# EAGLE library part USB4105 (library con-gct-usb)
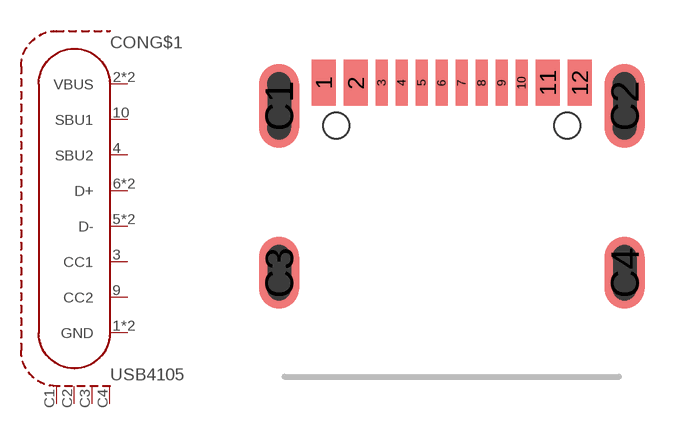
[diagram p0: symbol with the pads of USB4105; footprint USB4105]

Designator prefix CON; gates G$1=USB-C G$2=CASE4COM

## USB4105  [USB4105]
1  G$1:GND  pwr
2  G$1:VBUS  pwr
3  G$1:CC1
4  G$1:SBU2
5  G$1:D-
6  G$1:D+
7  G$1:D+
8  G$1:D-
9  G$1:CC2
10  G$1:SBU1
11  G$1:VBUS  pwr
12  G$1:GND  pwr
C1  G$2:C1  pwr
C2  G$2:C2  pwr
C3  G$2:C3  pwr
C4  G$2:C4  pwr

## Footprint USB4105 (pad centres in mm)
smd 0.6 x 1.15: 1 -3.2,7.355; 2 -2.4,7.355; 11 2.4,7.355; 12 3.2,7.355
smd 0.3 x 1.15: 3 -1.75,7.355; 4 -1.25,7.355; 5 -0.75,7.355; 6 -0.25,7.355; 7 0.25,7.355; 8 0.75,7.355; 9 1.25,7.355; 10 1.75,7.355
smd 1 x 2.1: C1 -4.32,6.78; C2 4.32,6.78
smd 1 x 1.8: C3 -4.32,2.6; C4 4.32,2.6
hole 0.65 at -2.89,6.28
hole 0.65 at 2.89,6.28